# EAGLE library part TC1221 (library IC)
High Frequency Switched Capacitor Voltage Converters With Shutdown in SOT Packages http://www.datasheetcatalog.org/datasheet/microchip/21367b.pdf
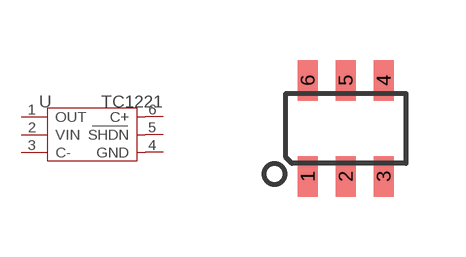
[diagram p8: symbol with the pads of SOT-23A-6; footprint SOT-23A-6]

Designator prefix U

## TC1221-SOT-23A  [SOT-23A-6]
1  OUT  out
2  VIN  sup
3  C-
4  GND  sup
5  SHDN  in
6  C+

## Footprint SOT-23A-6 (pad centres in mm)
smd 0.508 x 1.016: 1 -0.95,-1.2; 2 0,-1.2; 3 0.95,-1.2; 4 0.95,1.2; 5 0,1.2; 6 -0.95,1.2